# Altium schematic symbol library MaleHeaderSMD_100mil.SchLib: 3 symbols
Pins are listed as number, name and electrical type; pins without a type are passive.

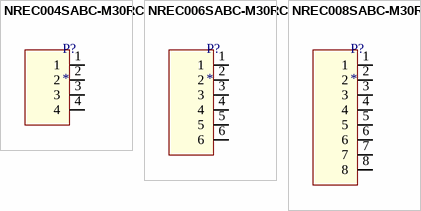
[diagram p0: symbols NREC004SABC-M30RC to NREC008SABC-M30RC]

## NREC004SABC-M30RC
designator P?
CONN HEADER .100" SNGL SMD 4POS; Manufacturer 1: Sullins; Manufacturer Part Number 1: NREC004SABC-M30RC; Number of Positions: 4; Connector Type: Male Pin; Pitch: 0.1inch; Supplier 1: Digi-Key; Stock 1: 1692; Pricing 1: 1=0.17000, 10=0.15900, 25=0.13600, 50=0.11900, 100=0.11040, 250=0.09772, 500=0.09346 (USD); RoHS: Yes; Mount: Surface Mount; Color: Black; Contact Plating: Tin; Package Quantity: 1; Number of Rows: 1; Packaging: Bulk; Termination: Solder; Contact Mating Length: 0.23inch; ComponentLink1URL: https://datasheet.ciiva.com/741/xrxczzzszzz-m30rc-11657-b-741121.pdf?src-supplier=Digi-Key; ComponentLink1Description: https://datasheet.ciiva.com/741/xrxczzzszzz-m30rc-11657-b-741121.pdf?src-supplier=Digi-Key
footprint NREC004SABC-M30RC
pins: 1, 2, 3, 4

## NREC006SABC-M30RC
designator P?
CONN HEADER .100" SNGL SMD 6POS; Manufacturer 1: Sullins; Manufacturer Part Number 1: NREC006SABC-M30RC; Number of Positions: 6; Connector Type: Male Pin; Pitch: 0.1inch; Supplier 1: Digi-Key; Stock 1: 3609; Pricing 1: 1=0.25000, 10=0.23900, 25=0.20400, 50=0.17840, 100=0.16570, 250=0.14656, 500=0.14018 (USD); RoHS: Yes; Mount: Surface Mount; Color: Black; Contact Plating: Tin; Package Quantity: 1; Number of Rows: 1; Packaging: Bulk; Termination: Solder; Contact Mating Length: 0.23inch; ComponentLink1URL: https://datasheet.ciiva.com/741/xrxczzzszzz-m30rc-11657-b-741119.pdf?src-supplier=Digi-Key; ComponentLink1Description: https://datasheet.ciiva.com/741/xrxczzzszzz-m30rc-11657-b-741119.pdf?src-supplier=Digi-Key
footprint NREC006SABC-M30RC
pins: 1, 2, 3, 4, 5, 6

## NREC008SABC-M30RC
designator P?
CONN HEADER .100" SNGL SMD 8POS; Manufacturer 1: Sullins; Manufacturer Part Number 1: NREC008SABC-M30RC; Number of Positions: 8; Connector Type: Male Pin; Pitch: 0.1inch; Supplier 1: Digi-Key; Stock 1: 1081; Pricing 1: 1=0.31000, 10=0.29700, 25=0.25480, 50=0.21660, 100=0.20820, 250=0.18692, 500=0.17842 (USD); RoHS: Yes; Mount: Surface Mount; Color: Black; Contact Plating: Tin; Package Quantity: 1; Number of Rows: 1; Packaging: Bulk; Termination: Solder; Contact Mating Length: 0.23inch; ComponentLink1URL: https://datasheet.ciiva.com/741/xrxczzzszzz-m30rc-11657-b-741117.pdf?src-supplier=Digi-Key; ComponentLink1Description: https://datasheet.ciiva.com/741/xrxczzzszzz-m30rc-11657-b-741117.pdf?src-supplier=Digi-Key
footprint NREC008SABC-M30RC
pins: 1, 2, 3, 4, 5, 6, 7, 8